# Altium schematic symbol library Analog_Switch.SchLib: 135 symbols (part 2 of 2)
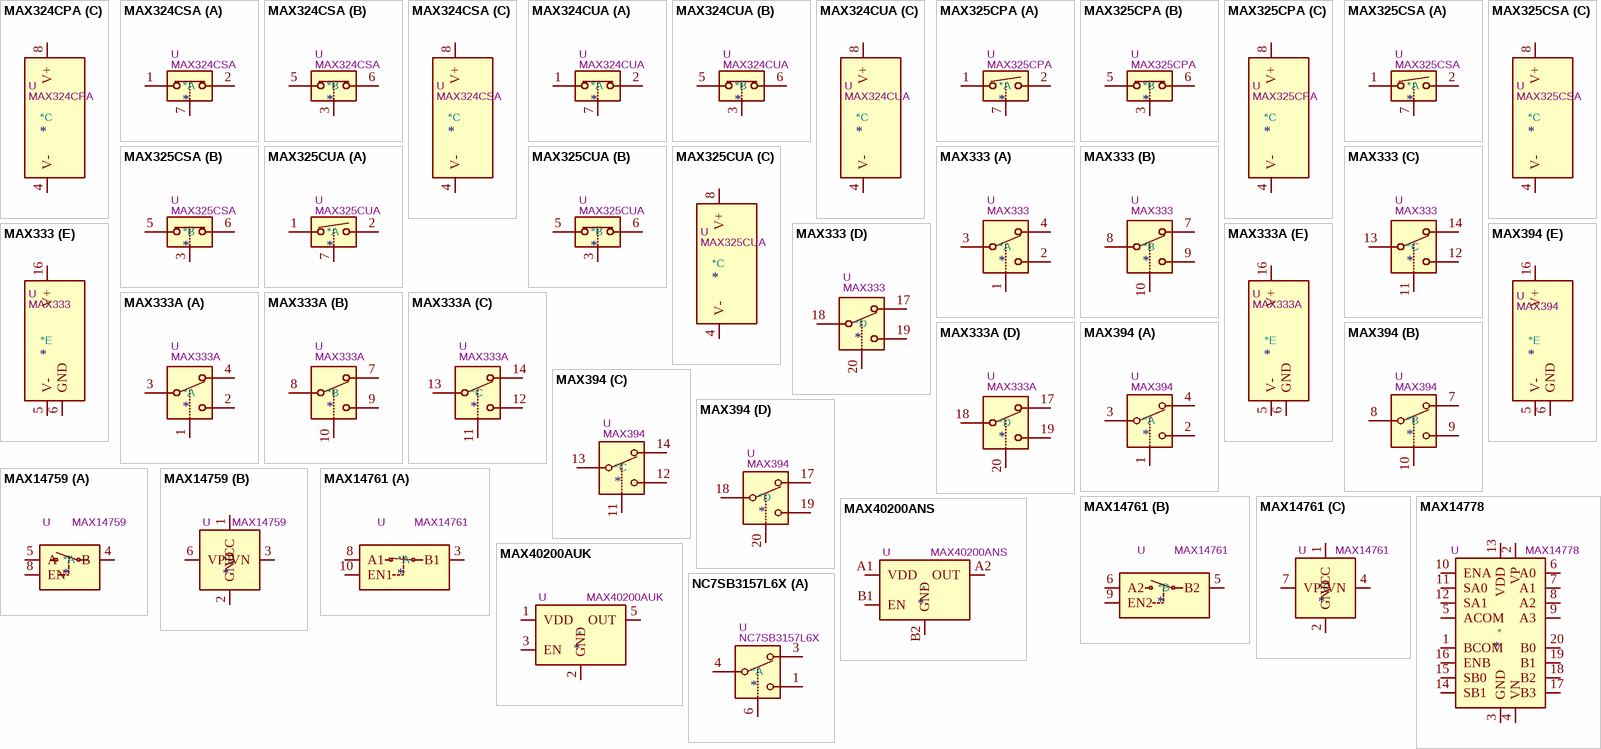
[diagram p10: symbols MAX324CPA to NC7SB3157L6X]

## MAX14778
designator *  value MAX14778  Reference: U
ki_keywords: Analog Differential Multiplexer; ki_description: Dual +-25V Above- and Below-the-Rails 4:1 Analog Multiplexer, TQFN-20; ki_fp_filters: TQFN*1EP*5x5mm*P0.65mm*; Footprint: Package_DFN_QFN:TQFN-20-1EP_5x5mm_P0.65mm_EP3.1x3.1mm; Datasheet: https://datasheets.maximintegrated.com/en/ds/MAX14778.pdf
pins: 1 BCOM, 2 VP, 3 GND, 4 VN, 5 ACOM, 6 A0, 7 A1, 8 A2, 9 A3, 10 ENA, 11 SA0, 12 SA1, 13 VDD, 14 SB1, 15 SB0, 16 ENB, 17 B3, 18 B2, 19 B1, 20 B0, 21 VN hidden

## MAX40200ANS
designator *  value MAX40200ANS  Reference: U
ki_keywords: current switch; ki_description: Ideal Diode, Ultra-Low Voltage Drop, 1.5-5.5V, 1A, WLP-4; ki_fp_filters: WLP*0.73x0.73mm*Layout2x2*P0.35mm*; Footprint: Package_BGA:WLP-4_0.73x0.73mm_Layout2x2_P0.35mm_Ball0.22mm_Pad0.2mm_NSMD; Datasheet: https://datasheets.maximintegrated.com/en/ds/MAX40200.pdf
pins: A1 VDD, A2 OUT, B1 EN, B2 GND

## MAX40200AUK
designator *  value MAX40200AUK  Reference: U
ki_keywords: current switch; ki_description: Ideal Diode, Ultra-Low Voltage Drop, 1.5-5.5V, 1A, SOT-23-5; ki_fp_filters: SOT?23*; Footprint: Package_TO_SOT_SMD:SOT-23-5; Datasheet: https://datasheets.maximintegrated.com/en/ds/MAX40200.pdf
pins: 1 VDD, 2 GND, 3 EN, 4 NC hidden, 5 OUT

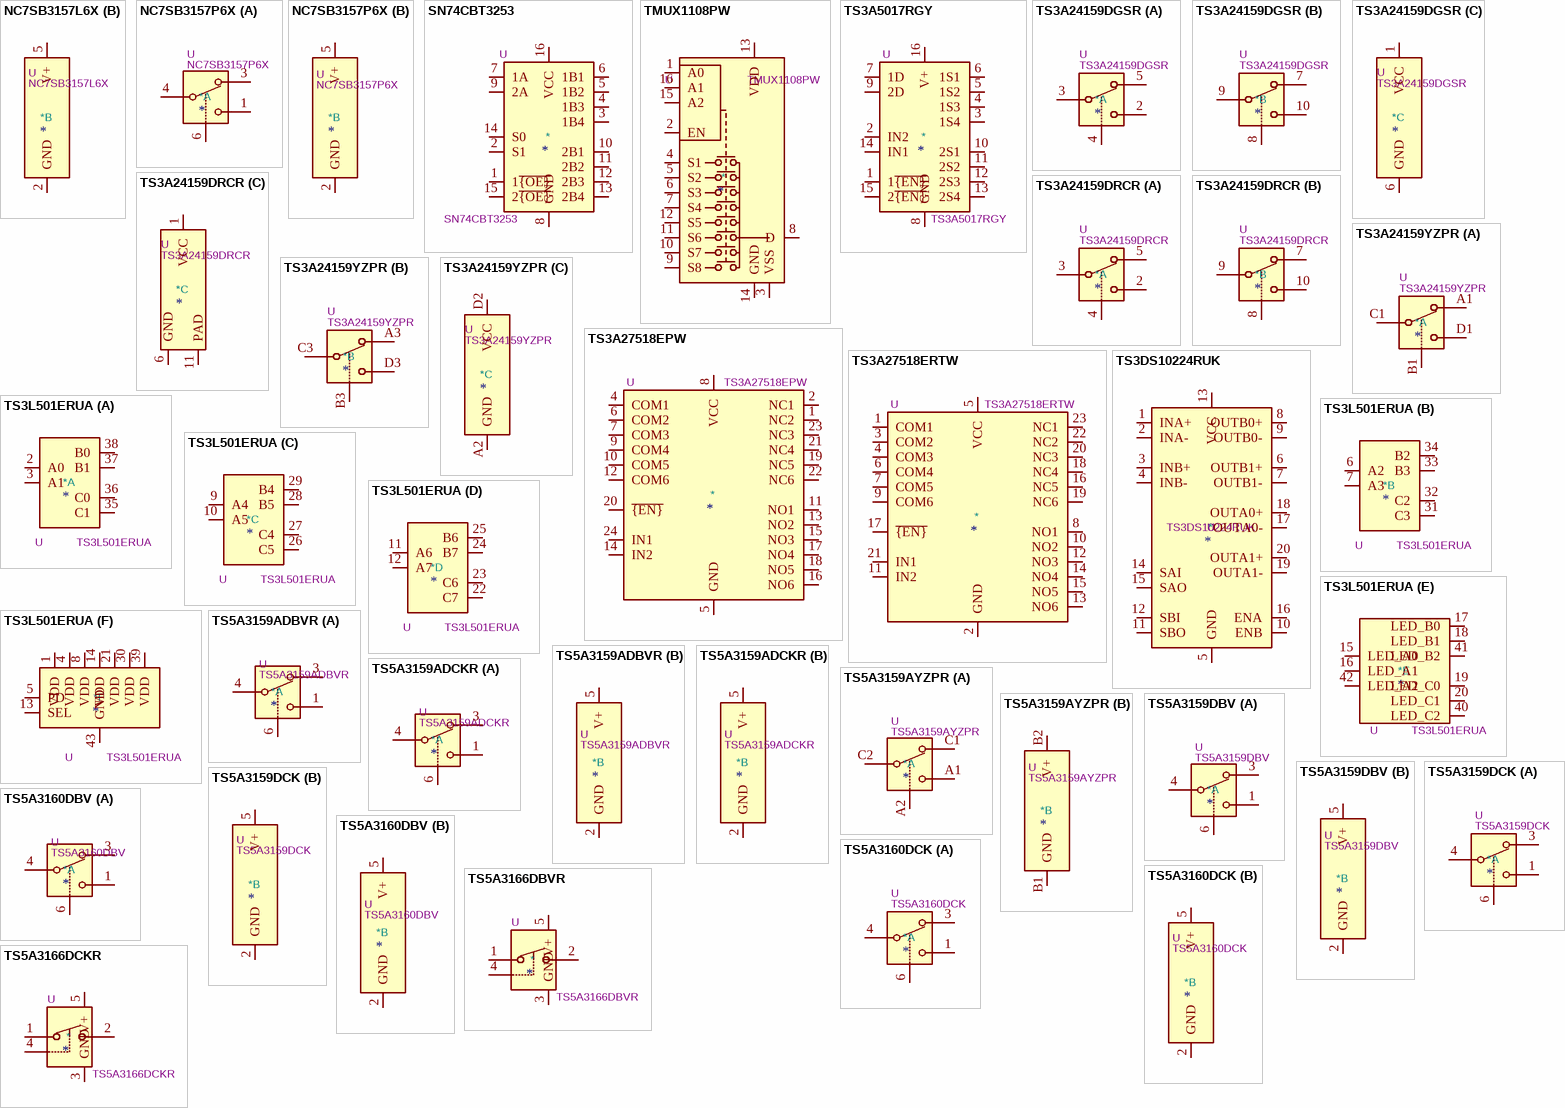
[diagram p8: symbols NC7SB3157L6X to TS5A3166DCKR]

## NC7SB3157L6X
designator *  value NC7SB3157L6X  Reference: U
ki_keywords: CMOS Analog Switch; ki_description: Single SPDT Low-Voltage Analog Switch or 2:1 Multiplexer/De-Multiplexer Bus Switch, 10Ohm Ron, MicroPak-6; ki_fp_filters: Fairchild*MicroPak*1.0x1.45mm*P0.5mm*; Footprint: Package_SON:Fairchild_MicroPak-6_1.0x1.45mm_P0.5mm; Datasheet: https://www.onsemi.com/pub/Collateral/NC7SB3157-D.PDF
part A pins: 1, 3, 4, 6
part B pins: 2 GND, 5 V+

## NC7SB3157P6X
designator *  value NC7SB3157P6X  Reference: U
ki_keywords: CMOS Analog Switch; ki_description: Single SPDT Low-Voltage Analog Switch or 2:1 Multiplexer/De-Multiplexer Bus Switch, 10Ohm Ron, SC-70-6; ki_fp_filters: *SC?70*; Footprint: Package_TO_SOT_SMD:SOT-363_SC-70-6; Datasheet: https://www.onsemi.com/pub/Collateral/NC7SB3157-D.PDF
part A pins: 1, 3, 4, 6
part B pins: 2 GND, 5 V+

## SN74CBT3253
designator *  value SN74CBT3253  Reference: U
ki_keywords: TTL Analog Multiplexer; ki_description: Dual 1 to 4 Analog Multiplexer; ki_fp_filters: SOIC*3.9x9.9mm*P1.27mm* TSSOP*4.4x5mm*P0.65mm* SSOP*5.3x6.2mm*P0.65mm*; Datasheet: http://www.ti.com/lit/gpn/sn74cbt3253
pins: 1 1~{{OE}}, 2 S1, 3 1B4, 4 1B3, 5 1B2, 6 1B1, 7 1A, 8 GND, 9 2A, 10 2B1, 11 2B2, 12 2B3, 13 2B4, 14 S0, 15 2~{{OE}}, 16 VCC

## TMUX1108PW
designator *  value TMUX1108PW  Reference: U
ki_keywords: analog switch selector multiplexer; ki_description: 5V / ±2.5V, Low-Leakage-Current, 8:1 Precision Multiplexer, 2.5 Ohm Ron, 90Mhz, TSSOP-16; ki_fp_filters: TSSOP*4.4x5mm*P0.65mm*; Footprint: Package_SO:TSSOP-16_4.4x5mm_P0.65mm; Datasheet: https://www.ti.com/lit/ds/symlink/tmux1108.pdf
pins: 1 A0, 2 EN, 3 VSS, 4 S1, 5 S2, 6 S3, 7 S4, 8 D, 9 S8, 10 S7, 11 S6, 12 S5, 13 VDD, 14 GND, 15 A2, 16 A1

## TS3A5017RGY
designator *  value TS3A5017RGY  Reference: U
ki_keywords: Analog switch SP4T; ki_description: Dual SP4T Analog Switch Mux Demux, VQFN; ki_fp_filters: Texas*RGY*R*PVQFN*N*; Footprint: Package_DFN_QFN:Texas_RGY_R-PVQFN-N16_EP2.05x2.55mm; Datasheet: https://www.ti.com/lit/ds/symlink/ts3a5017.pdf
pins: 1 1~{{EN}}, 2 IN2, 3 1S4, 4 1S3, 5 1S2, 6 1S1, 7 1D, 8 GND, 9 2D, 10 2S1, 11 2S2, 12 2S3, 13 2S4, 14 IN1, 15 2~{{EN}}, 16 V+, 17 GND hidden

## TS3A24159DGSR
designator *  value TS3A24159DGSR  Reference: U
ki_keywords: switch analog SPDT; ki_description: Dual SPDT 0.3Ω Bidirectional Analog Switch, TSSOP-10; ki_fp_filters: *SSOP*3x3mm*P0.5mm*; Footprint: Package_SO:TSSOP-10_3x3mm_P0.5mm; Datasheet: http://www.ti.com/lit/ds/symlink/ts3a24159.pdf
part A pins: 2, 3, 4, 5
part B pins: 7, 8, 9, 10
part C pins: 1 VCC, 6 GND

## TS3A24159DRCR
designator *  value TS3A24159DRCR  Reference: U
ki_keywords: switch analog SPDT; ki_description: Dual SPDT 0.3Ω Bidirectional Analog Switch, VSON-10; ki_fp_filters: Texas*S?PVSON?N10*; Footprint: Package_SON:Texas_S-PVSON-N10; Datasheet: http://www.ti.com/lit/ds/symlink/ts3a24159.pdf
part A pins: 2, 3, 4, 5
part B pins: 7, 8, 9, 10
part C pins: 1 VCC, 6 GND, 11 PAD

## TS3A24159YZPR
designator *  value TS3A24159YZPR  Reference: U
ki_keywords: switch analog SPDT; ki_description: Dual SPDT 0.3Ω Bidirectional Analog Switch, DSBGA-10; ki_fp_filters: Texas*DSBGA*1.36x1.86mm*Layout3x4*P0.5mm*; Footprint: Package_BGA:Texas_DSBGA-10_1.36x1.86mm_Layout3x4_P0.5mm; Datasheet: http://www.ti.com/lit/ds/symlink/ts3a24159.pdf
part A pins: A1, B1, C1, D1
part B pins: A3, B3, C3, D3
part C pins: A2 GND, D2 VCC

## TS3A27518EPW
designator *  value TS3A27518EPW  Reference: U
ki_keywords: SPI qSPI multiplexer demux; ki_description: 6-channel analog mux, TSSOP-24; ki_fp_filters: TSSOP*4.4x7.8mm*P0.65mm*; Footprint: Package_SO:TSSOP-24_4.4x7.8mm_P0.65mm; Datasheet: http://www.ti.com/lit/ds/symlink/ts3a27518e.pdf
pins: 1 NC2, 2 NC1, 3 N.C. hidden, 4 COM1, 5 GND, 6 COM2, 7 COM3, 8 VCC, 9 COM4, 10 COM5, 11 NO1, 12 COM6, 13 NO2, 14 IN2, 15 NO3, 16 NO6, 17 NO4, 18 NO5, 19 NC5, 20 ~{{EN}}, 21 NC4, 22 NC6, 23 NC3, 24 IN1

## TS3A27518ERTW
designator *  value TS3A27518ERTW  Reference: U
ki_keywords: SPI qSPI multiplexer demux; ki_description: 6-channel analog mux, WQFN-24; ki_fp_filters: WQFN*4x4mm*P0.5mm*; Footprint: Package_DFN_QFN:WQFN-24-1EP_4x4mm_P0.5mm_EP2.6x2.6mm; Datasheet: http://www.ti.com/lit/ds/symlink/ts3a27518e.pdf
pins: 1 COM1, 2 GND, 3 COM2, 4 COM3, 5 VCC, 6 COM4, 7 COM5, 8 NO1, 9 COM6, 10 NO2, 11 IN2, 12 NO3, 13 NO6, 14 NO4, 15 NO5, 16 NC5, 17 ~{{EN}}, 18 NC4, 19 NC6, 20 NC3, 21 IN1, 22 NC2, 23 NC1, 24 N.C. hidden, 25 GND hidden

## TS3DS10224RUK
designator *  value TS3DS10224RUK  Reference: U
ki_keywords: multiplexer demultiplexer 1:4 differential; ki_description: High-Speed Differential Crosspoint, WQFN-20; ki_fp_filters: WQFN*1EP*3x3mm*P0.4mm*; Footprint: Package_DFN_QFN:WQFN-20-1EP_3x3mm_P0.4mm_EP1.7x1.7mm_ThermalVias; Datasheet: http://www.ti.com/lit/ds/symlink/ts3ds10224.pdf
pins: 1 INA+, 2 INA-, 3 INB+, 4 INB-, 5 GND, 6 OUTB1+, 7 OUTB1-, 8 OUTB0+, 9 OUTB0-, 10 ENB, 11 SBO, 12 SBI, 13 VCC, 14 SAI, 15 SAO, 16 ENA, 17 OUTA0-, 18 OUTA0+, 19 OUTA1-, 20 OUTA1+

## TS3L501ERUA
designator *  value TS3L501ERUA  Reference: U
ki_keywords: gbit base-t lvds lvpecl video; ki_description: 8-Channel SPDT/16-Bit to 8-Bit Multiplexer and Demultiplexer, Ethernet LAN Switch With Power-Down Mode, WQFN-42; ki_fp_filters: WQFN*1EP*3.5x9mm*P0.5mm*; Footprint: Package_DFN_QFN:WQFN-42-1EP_3.5x9mm_P0.5mm_EP2.05x7.55mm; Datasheet: http://www.ti.com/lit/ds/symlink/ts3l501e.pdf
part A pins: 2 A0, 3 A1, 35 C1, 36 C0, 37 B1, 38 B0
part B pins: 6 A2, 7 A3, 31 C3, 32 C2, 33 B3, 34 B2
part C pins: 9 A4, 10 A5, 26 C5, 27 C4, 28 B5, 29 B4
part D pins: 11 A6, 12 A7, 22 C7, 23 C6, 24 B7, 25 B6
part E pins: 15 LED_A0, 16 LED_A1, 17 LED_B0, 18 LED_B1, 19 LED_C0, 20 LED_C1, 40 LED_C2, 41 LED_B2, 42 LED_A2
part F pins: 1 VDD, 4 VDD, 5 PD, 8 VDD, 13 SEL, 14 VDD, 21 VDD, 30 VDD, 39 VDD, 43 GND

## TS5A3159ADBVR
designator *  value TS5A3159ADBVR  Reference: U
ki_keywords: Analog Switch; ki_description: Single SPDT Analog Switch, 1.65-V to 5.5-V Single-Supply Operation, 1Ohm Ron, SOT-23-6; ki_fp_filters: SOT?23*; Footprint: Package_TO_SOT_SMD:SOT-23-6; Datasheet: http://www.ti.com/lit/ds/symlink/ts5a3159a.pdf
part A pins: 1, 3, 4, 6
part B pins: 2 GND, 5 V+

## TS5A3159ADCKR
designator *  value TS5A3159ADCKR  Reference: U
ki_keywords: Analog Switch; ki_description: Single SPDT Analog Switch, 1.65-V to 5.5-V Single-Supply Operation, 1Ohm Ron, SC-70-6; ki_fp_filters: *SC?70*; Footprint: Package_TO_SOT_SMD:SOT-363_SC-70-6; Datasheet: http://www.ti.com/lit/ds/symlink/ts5a3159a.pdf
part A pins: 1, 3, 4, 6
part B pins: 2 GND, 5 V+

## TS5A3159AYZPR
designator *  value TS5A3159AYZPR  Reference: U
ki_keywords: Analog Switch; ki_description: Single SPDT Analog Switch, 1.65-V to 5.5-V Single-Supply Operation, 1Ohm Ron, DSBGA-6; ki_fp_filters: Texas*DSBGA*0.9x1.4mm*2x3*P0.5mm*; Footprint: Package_BGA:Texas_DSBGA-6_0.9x1.4mm_Layout2x3_P0.5mm; Datasheet: http://www.ti.com/lit/ds/symlink/ts5a3159a.pdf
part A pins: A1, A2, C1, C2
part B pins: B1 GND, B2 V+

## TS5A3159DBV
designator *  value TS5A3159DBV  Reference: U
ki_keywords: Analog Switch; ki_description: Single SPDT Analog Switch, 1.65-V to 5.5-V Single-Supply Operation, 1Ohm Ron, SOT-23-6; ki_fp_filters: SOT?23*; Footprint: Package_TO_SOT_SMD:SOT-23-6; Datasheet: http://www.ti.com/lit/ds/symlink/ts5a3159.pdf
part A pins: 1, 3, 4, 6
part B pins: 2 GND, 5 V+

## TS5A3159DCK
designator *  value TS5A3159DCK  Reference: U
ki_keywords: Analog Switch SPDT; ki_description: Single SPDT Analog Switch, 1.65-V to 5.5-V Single-Supply Operation, 1Ohm Ron, SC-70-6; ki_fp_filters: *SC?70*; Footprint: Package_TO_SOT_SMD:SOT-363_SC-70-6; Datasheet: http://www.ti.com/lit/ds/symlink/ts5a3159.pdf
part A pins: 1, 3, 4, 6
part B pins: 2 GND, 5 V+

## TS5A3160DBV
designator *  value TS5A3160DBV  Reference: U
ki_keywords: Analog Switch; ki_description: Single SPDT Analog Switch, 1.65-V to 5.5-V Single-Supply Operation, 1Ohm Ron, SOT-23-6; ki_fp_filters: SOT?23*; Footprint: Package_TO_SOT_SMD:SOT-23-6; Datasheet: http://www.ti.com/lit/ds/symlink/ts5a3160.pdf
part A pins: 1, 3, 4, 6
part B pins: 2 GND, 5 V+

## TS5A3160DCK
designator *  value TS5A3160DCK  Reference: U
ki_keywords: Analog Switch; ki_description: Single SPDT Analog Switch, 1.65-V to 5.5-V Single-Supply Operation, 1Ohm Ron, SC-70-6; ki_fp_filters: *SC?70*; Footprint: Package_TO_SOT_SMD:SOT-363_SC-70-6; Datasheet: http://www.ti.com/lit/ds/symlink/ts5a3160.pdf
part A pins: 1, 3, 4, 6
part B pins: 2 GND, 5 V+

## TS5A3166DBVR
designator *  value TS5A3166DBVR  Reference: U
ki_keywords: Analog Switch SPST; ki_description: Single SPST Analog Switch, 5-V/3.3-V, normally OFF, 0.9Ohm Ron, SOT-23-5; ki_fp_filters: SOT?23*; Footprint: Package_TO_SOT_SMD:SOT-23-5; Datasheet: http://www.ti.com/lit/ds/symlink/ts5a3166.pdf
pins: 1, 2, 3 GND, 4, 5 V+

## TS5A3166DCKR
designator *  value TS5A3166DCKR  Reference: U
ki_keywords: Analog Switch SPST; ki_description: Single SPST Analog Switch, 5-V/3.3-V, normally OFF, 0.9Ohm Ron, SC-70; ki_fp_filters: *SC?70?5*; Footprint: Package_TO_SOT_SMD:SOT-353_SC-70-5; Datasheet: http://www.ti.com/lit/ds/symlink/ts5a3166.pdf
pins: 1, 2, 3 GND, 4, 5 V+

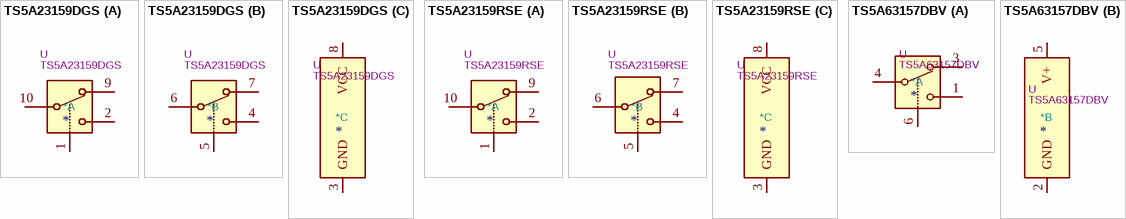
[diagram p9: symbols TS5A23159DGS to TS5A63157DBV]

## TS5A23159DGS
designator *  value TS5A23159DGS  Reference: U
ki_keywords: switch analog SPDT; ki_description: Dual SPDT 1ohm Bidirectional Analog Switch with Off protection, VSSOP-10; ki_fp_filters: VSSOP*3x3mm*P0.5mm*; Footprint: Package_SO:VSSOP-10_3x3mm_P0.5mm; Datasheet: http://www.ti.com/lit/ds/symlink/ts5a23159.pdf
part A pins: 1, 2, 9, 10
part B pins: 4, 5, 6, 7
part C pins: 3 GND, 8 VCC

## TS5A23159RSE
designator *  value TS5A23159RSE  Reference: U
ki_keywords: switch analog SPDT; ki_description: Dual SPDT 1ohm Bidirectional Analog Switch with Off protection, UQFN-10; ki_fp_filters: Texas?R*PUQFN*; Footprint: Package_DFN_QFN:Texas_R-PUQFN-N10; Datasheet: http://www.ti.com/lit/ds/symlink/ts5a23159.pdf
part A pins: 1, 2, 9, 10
part B pins: 4, 5, 6, 7
part C pins: 3 GND, 8 VCC

## TS5A63157DBV
designator *  value TS5A63157DBV  Reference: U
ki_keywords: Analog Switch; ki_description: Single SPDT Analog Switch, 5V/3.3V Single-Supply Operation, 12Ohm Ron, SOT-23-6; ki_fp_filters: SOT?23*; Footprint: Package_TO_SOT_SMD:SOT-23-6; Datasheet: https://www.ti.com/lit/ds/symlink/ts5a63157.pdf
part A pins: 1, 3, 4, 6
part B pins: 2 GND, 5 V+